# Altium schematic symbol library TPS55332QPWPRQ1.SchLib: 1 symbol
Pins are listed as number, name and electrical type; pins without a type are passive.

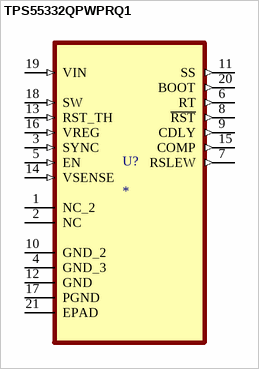
[diagram p0: symbol TPS55332QPWPRQ1]

## TPS55332QPWPRQ1
designator U?
60-V OUTPUT STEP UP DC/DC CONVERTER; MF: {'manufacturer': u'Texas Instruments'}; MP: TPS55332QPWPRQ1; Package: None; Value: *; Price: None; Availability: Unavailable
footprint SOP65P640X120-21N
pins: 1 NC_2, 2 NC, 3 SYNC (in), 4 GND_3, 5 EN (in), 6 RT (out), 7 RSLEW (out), 8 ~{RST} (out), 9 CDLY (out), 10 GND_2, 11 SS (out), 12 GND, 13 RST_TH (in), 14 VSENSE (in), 15 COMP (out), 16 VREG (in), 17 PGND, 18 SW (in), 19 VIN (in), 20 BOOT (out), 21 EPAD